# EAGLE library part KX134-1211 (library nose-cone)
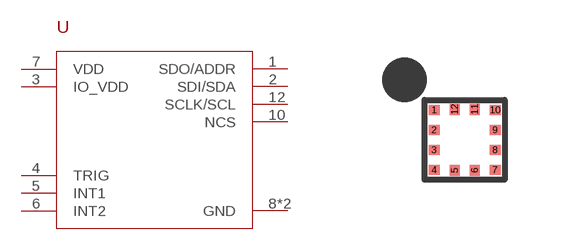
[diagram p2: symbol with the pads of KX134-1211; footprint KX134-1211]

Designator prefix U

## KX134-1211  [KX134-1211]
1  SDO/ADDR
2  SDI/SDA
3  IO_VDD
4  TRIG
5  INT1
6  INT2
7  VDD
8  GND
9  GND
10  NCS
12  SCLK/SCL

## Footprint KX134-1211 (pad centres in mm)
smd 0.275 x 0.25: 1 -0.762,0.75; 2 -0.762,0.25; 3 -0.762,-0.25; 4 -0.762,-0.75; 7 0.762,-0.75; 8 0.762,-0.25; 9 0.762,0.25; 10 0.762,0.75
smd 0.25 x 0.275: 5 -0.25,-0.762; 6 0.25,-0.762; 11 0.25,0.762; 12 -0.25,0.762